# Altium footprint library pancon.PcbLib: 2 footprints
Each footprint in its own frame and in the unit in brackets; x right, y up, seen from the top. Pads: shape width x height; smd on the part's side, far side on the other; paste and mask are expansions set on the pad; w line width, h text height; cw(c..) or ccw(c..) is an arc to the next point about the centre after c.
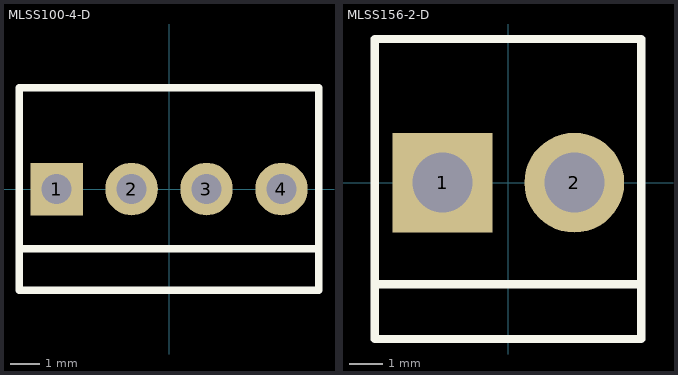
[diagram p0: the footprints below, top view; thin cyan lines are the x and y axes]

## MLSS100-4-D [mil]
pads (4):
  rect 70x70 hole 39.37: 1(-150,0)
  round 70 hole 39.37: 2(-50,0) 3(50,0) 4(150,0)
Top Overlay:
  lines w10: -200,-80 200,-80 ; -200,-135 200,-135 200,135 -200,135 -200,-135
3D body "70083644.stp": height 397.36, standoff -137.64, extent -200,-107.5 200,122.5

## MLSS156-2-D [mm]
pads (2):
  rect 3x3 hole 1.8: 1(-1.981,0)
  round 3 hole 1.8: 2(1.981,0)
Top Overlay:
  lines w0.254: -4.013,-3.048 3.988,-3.048 ; -4.013,-4.699 3.988,-4.699 3.988,4.318 -4.013,4.318 -4.013,-4.699
3D body "User Library-Cvilux_CI5102P1V00.STEP": height 14, standoff -3.5, extent -3.959,-4.981 3.961,4.62